# Altium integrated library 3-644456-9.IntLib: 1 symbol
Pins are listed as number, name and electrical type; pins without a type are passive.

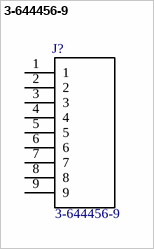
[diagram p0: symbol 3-644456-9]

## 3-644456-9
designator J?
Value: *
footprint *TE_3-644456-9
pins: 1, 2, 3, 4, 5, 6, 7, 8, 9